# Altium schematic symbol library KMR231NGLFS.SchLib: 1 symbol
Pins are listed as number, name and electrical type; pins without a type are passive.

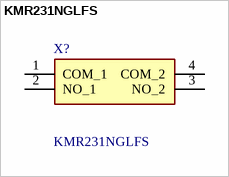
[diagram p0: symbol KMR231NGLFS]

## KMR231NGLFS
designator X?
KMR231NGLFS (Tactile Switches); Manufacturer_Name: C & K COMPONENTS; Geometry.Height: 1.9mm; Mouser Part Number: 611-KMR231NGLFS; Mouser Price/Stock: https://www.mouser.co.uk/ProductDetail/CK/KMR231NGLFS?qs=sb%252But3Lm4x1Y5NsXXdZx2g%3D%3D; Manufacturer_Part_Number: KMR231NGLFS; Datasheet Link: https://www.ckswitches.com/media/1479/kmr2.pdf
footprint KMR231NGLFS
pins: 1 COM_1, 2 NO_1, 3 NO_2, 4 COM_2